# EAGLE library part ESP8266EX (library Microcontroller)
IC RF TXRX+MCU WIFI 32VFQFN Manufacturer's datasheet <https://www.espressif.com/sites/default/files/documentation/0a-esp8266ex_datasheet_en.pdf>
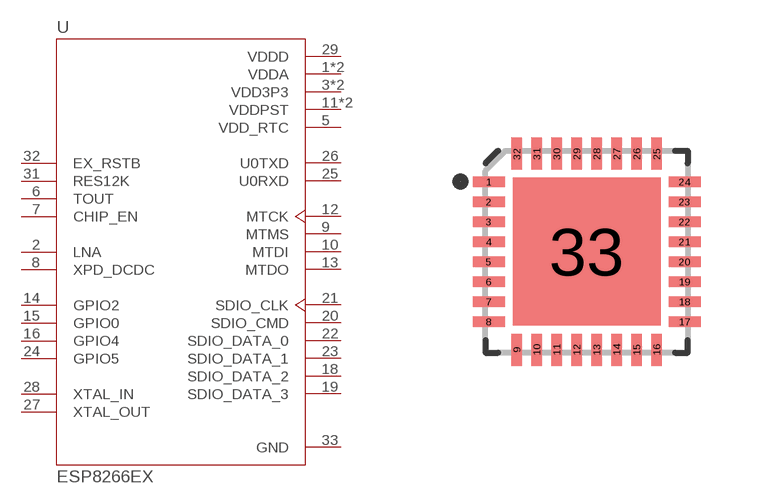
[diagram p42: symbol with the pads of VFQFN32; footprint VFQFN32]

Designator prefix U

## ESP8266EX (CREATED_BY: PCBLayout.com; DIGIKEY_PARTNO: 1904-1001-6-ND; MANUFACTURER: Espressif Systems; MPN: ESP8266EX; PACKAGE: VFQFN32)  [VFQFN32]
1  VDDA  pwr
2  LNA
3  VDD3P3  pwr
4  VDD3P3  pwr
5  VDD_RTC  pwr
6  TOUT  in
7  CHIP_EN  in
8  XPD_DCDC
9  MTMS
10  MTDI
11  VDDPST  pwr
12  MTCK
13  MTDO
14  GPIO2
15  GPIO0
16  GPIO4
17  VDDPST  pwr
18  SDIO_DATA_2
19  SDIO_DATA_3
20  SDIO_CMD
21  SDIO_CLK
22  SDIO_DATA_0
23  SDIO_DATA_1
24  GPIO5
25  U0RXD
26  U0TXD
27  XTAL_OUT
28  XTAL_IN
29  VDDD  pwr
30  VDDA  pwr
31  RES12K  in
32  EX_RSTB  in
33  GND  pwr

## Footprint VFQFN32 (pad centres in mm)
smd 0.8 x 0.27: 1 -2.45,1.75; 2 -2.45,1.25; 3 -2.45,0.75; 4 -2.45,0.25; 5 -2.45,-0.25; 6 -2.45,-0.75; 7 -2.45,-1.25; 8 -2.45,-1.75; 17 2.45,-1.75; 18 2.45,-1.25; 19 2.45,-0.75; 20 2.45,-0.25; 21 2.45,0.25; 22 2.45,0.75; 23 2.45,1.25; 24 2.45,1.75
smd 0.27 x 0.8: 9 -1.75,-2.45; 10 -1.25,-2.45; 11 -0.75,-2.45; 12 -0.25,-2.45; 13 0.25,-2.45; 14 0.75,-2.45; 15 1.25,-2.45; 16 1.75,-2.45; 25 1.75,2.45; 26 1.25,2.45; 27 0.75,2.45; 28 0.25,2.45; 29 -0.25,2.45; 30 -0.75,2.45; 31 -1.25,2.45; 32 -1.75,2.45
smd 3.7 x 3.7: 33 0,0